# EAGLE library part FFC_6_SFW6R-2STE1LF (library dpx-con-CUSTOM)
1.00mm Flex Connector, SFW-R series, 6 Position, Top side Contact, Side Entry Surface Mount ZIF Connector, Lead Free. Source: Datasheet <https://cdn.amphenol-cs.com/media/wysiwyg/files/drawing/sfw12lf.pdf>
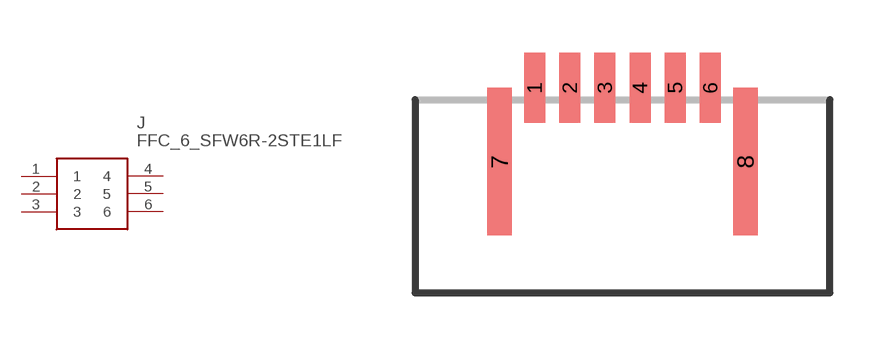
[diagram p5: symbol with the pads of SFW6R-2STE1LF; footprint SFW6R-2STE1LF]

Designator prefix J

## FFC_6_SFW6R-2STE1LF (DESCRIPTION: 1.00mm Flex Connector, SFW-R series, 6 Position, Top side Contact, Side Entry Surface Mount ZIF Connector, Lead Free.; HEIGHT: mm; MANUFACTURER_NAME: Amphenol Communication Solutions; MANUFACTURER_PART_NUMBER: SFW6R-2STE1LF; MOUSER_PART_NUMBER: 649-SFW6R-2STE1LF; MOUSER_PRICE-STOCK: https://www.mouser.co.uk/ProductDetail/Amphenol-FCI/SFW6R-2STE1LF?qs=XRaITl65jnsKk8LJMd1Fwg%3D%3D)  [SFW6R-2STE1LF]
1  1
2  2
3  3
4  4
5  5
6  6

## Footprint SFW6R-2STE1LF (pad centres in mm)
SFW6R-2STE1LF
smd 0.6 x 2: 1 -2.5,0.338; 2 -1.5,0.338; 3 -0.5,0.338; 4 0.5,0.338; 5 1.5,0.338; 6 2.5,0.338
smd 0.7 x 4.2: 7 -3.5,-1.762; 8 3.5,-1.762